# Altium integrated library HTLinn_Sources.IntLib: 11 symbols
Pins are listed as number, name and electrical type; pins without a type are passive.

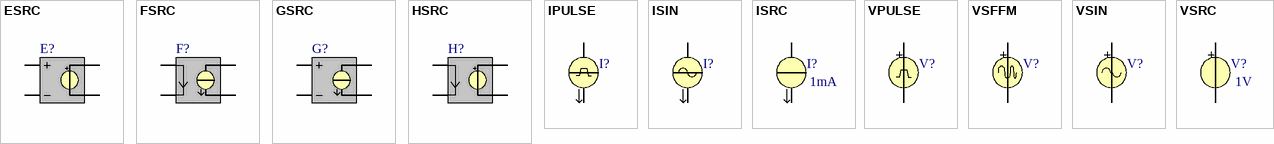
[diagram p0: symbols ESRC to VSRC]

## ESRC
designator E?
Voltage Controlled Voltage Source; Sim Note: Enter gain into gain field; Gain: 1
simulation model VCVS
pins: 1 NC+, 2 NC-, 3 N+, 4 N-

## FSRC
designator F?
Current Controlled Current Source; Sim Note: Enter gain into GAIN field; Gain: 1
simulation model CCCS
pins: 1 NC+, 2 NC-, 3 N+, 4 N-

## GSRC
designator G?
Voltage Controlled Current Source; Sim Note: Enter gain into GAIN field; Gain: 1
simulation model VCCS
pins: 1 NC+, 2 NC-, 3 N+, 4 N-

## HSRC
designator H?
Current Controlled Voltage Source; Sim Note: Enter gain into gain field; Gain: 1
simulation model CCVS
pins: 1 NC+, 2 NC-, 3 N+, 4 N-

## IPULSE
designator I?
Pulse Current Source; AC Magnitude: 1; AC Phase: 0; Fall Time: 1u; Period: 1ms; Pulse Width: 0.5ms; Pulsed Value: 5; DC Magnitude: 0; Initial Value: 0; Rise Time: 1u
simulation model IPULSE
pins: 1, 2

## ISIN
designator I?
Sinusoidal Current Source; AC Magnitude: 1; AC Phase: 0; Frequency: 1K; Amplitude: 1; Damping Factor: 0; DC Magnitude: 0; Delay: 0; Offset: 0; Phase: 0
simulation model ISIN
pins: 1, 2

## ISRC
designator I?  value 1mA
Current Source
simulation model ISRC
pins: 1, 2

## VPULSE
designator V?
Pulse Voltage Source; AC Magnitude: 1; AC Phase: 0; Fall Time: 1u; Period: 1ms; Pulse Width: 0.5ms; Pulsed Value: 5; DC Magnitude: 0; Initial Value: 0; Rise Time: 1u
simulation model VPULSE
pins: 1, 2

## VSFFM
designator V?
Frequency-Modulated Sinusoidal Voltage Source; AC Magnitude: 1; AC Phase: 0; Carrier Frequency: 100k; Modulation Index: 5; Offset: 2.5; Signal Frequency: 10k; Amplitude: 1; DC Magnitude: 0
simulation model VSFFM
pins: 1, 2

## VSIN
designator V?
Sinusoidal Voltage Source; AC Phase: 0; Amplitude: 1; Frequency: 1K; AC Magnitude: 1; Damping Factor: 0; DC Magnitude: 0; Delay: 0; Offset: 0; Phase: 0
simulation model VSIN
pins: 1, 2

## VSRC
designator V?  value 1V
Voltage Source
simulation model VSRC
pins: 1, 2